# Altium footprint library LTC6992CDCB-3TRMPBF.PCBLIB: 1 footprints
Each footprint in its own frame and in the unit in brackets; x right, y up, seen from the top. Pads: shape width x height; smd on the part's side, far side on the other; paste and mask are expansions set on the pad; w line width, h text height; cw(c..) or ccw(c..) is an arc to the next point about the centre after c.
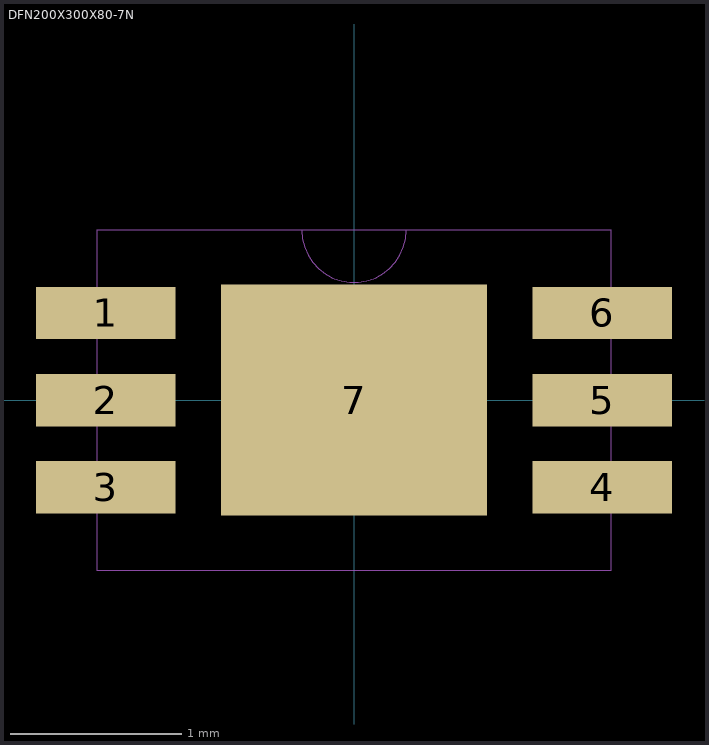
[diagram p0: the footprint, top view; thin cyan lines are the x and y axes]

## DFN200X300X80-7N [mil]
pads (7):
  rect 32x12 smd: 1(-57,20) 2(-57,0) 3(-57,-20) 4(57,-20) 5(57,0) 6(57,20)
  rect 61x53 smd: 7(0,0)
Assembly Top:
  lines w0: -12,39 12,39 ; -12,39 -59,39 -59,-39 59,-39 59,39 12,39 ; -12,39 ccw(c0,39) 12,39